# Altium schematic symbol library LibTestSch.SchLib: 27 symbols
Pins are listed as number, name and electrical type; pins without a type are passive.

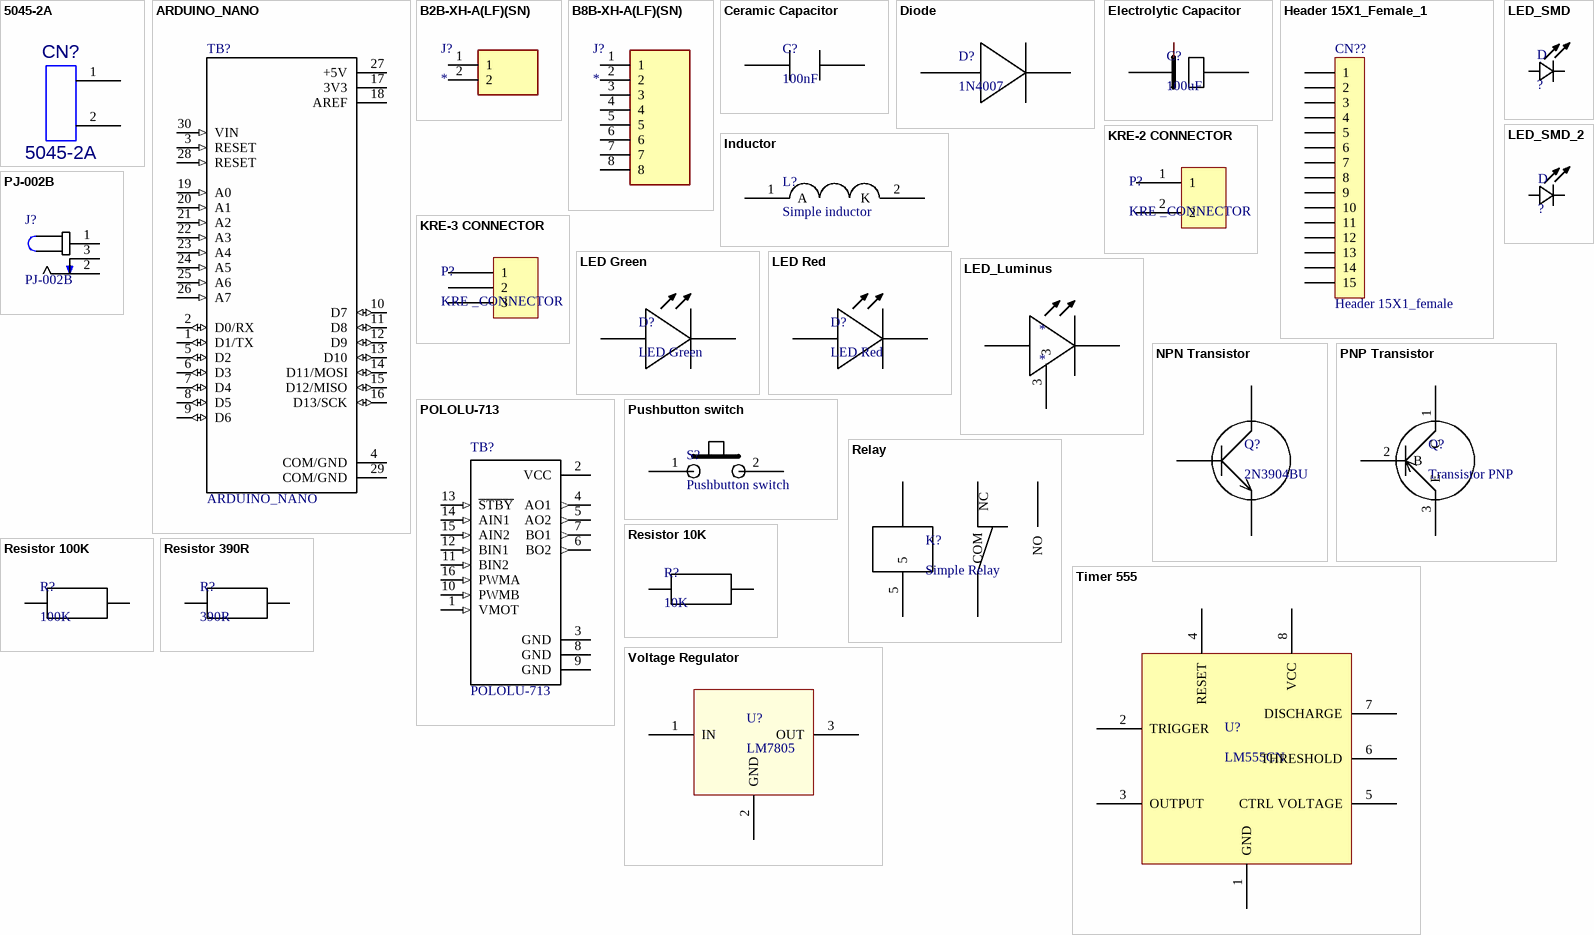
[diagram p0: symbols 5045-2A to Voltage Regulator]

## 5045-2A
designator CN?
Value: *
footprint 5045-2A
footprint 5045-2A
pins: 1, 2

## ARDUINO_NANO
designator TB?
Dev.kit: Arduino; UART; ICSP, USB B mini, pin strips; MP: ARDUINO NANO; SnapEDA_Link: https://www.snapeda.com/parts/ARDUINO%20NANO/Arduino/view-part/?ref=snap; Availability: Unavailable; Package: None; Price: None; MF: Arduino; Value: *
footprint *SHIELD_ARDUINO_NANO
pins: 1 D1/TX (io), 2 D0/RX (io), 3 RESET (in), 4 COM/GND (power), 5 D2 (io), 6 D3 (io), 7 D4 (io), 8 D5 (io), 9 D6 (io), 10 D7 (io), 11 D8 (io), 12 D9 (io), 13 D10 (io), 14 D11/MOSI (io), 15 D12/MISO (io), 16 D13/SCK (io), 17 3V3 (power), 18 AREF (power), 19 A0 (in), 20 A1 (in), 21 A2 (in), 22 A3 (in), 23 A4 (in), 24 A5 (in), 25 A6 (in), 26 A7 (in), 27 +5V (power), 28 RESET (in), 29 COM/GND (power), 30 VIN (in)

## B2B-XH-A(LF)(SN)
designator J?
Connector; Manufacturer_Name: JST Sales America; Manufacturer_Part_Number: B2B-XH-A(LF)(SN); Datasheet Link: http://www.jst-mfg.com/product/pdf/eng/eXH.pdf; Height: 7mm
footprint SHDR2W64P0X250_1X2_740X575X700P
pins: 1, 2

## B8B-XH-A(LF)(SN)
designator J?
Connector; Manufacturer_Name: JST (JAPAN SOLDERLESS TERMINALS); Manufacturer_Part_Number: B8B-XH-A(LF)(SN); Datasheet Link: http://docs-emea.rs-online.com/webdocs/1357/0900766b81357f2f.pdf; Height: 7mm; RS Part Number: 8201576P; RS Price/Stock: http://uk.rs-online.com/web/p/products/8201576P
footprint HDRV8W64P0X250_1X8_2240X575X700P
pins: 1, 2, 3, 4, 5, 6, 7, 8

## Ceramic Capacitor
designator C?, comment 100nF
CAP CER 0.1UF 50V X7R RADIAL; eVendorPart#: BC5111-ND; Manufacturer: Vishay BC Components; Part#: D102K20Y5PH63J5R; eVendor: Digikey; eVendorPrice: 0.18; MOQ: *; MSRP: *
footprint Capacitor(ceramic)
pins: 1, 2

## Diode
designator D?, comment 1N4007
DIODE GEN PURP 1KV 1A DO41; eVendorPart#: 1N4007DITR-ND; Manufacturer: Diodes Incorporated; Part#: 1N4007-T; eVendor: Digikey; eVendorPrice: 0,15; MOQ: *; MSRP: *
footprint DO_41
pins: 1, 2

## Electrolytic Capacitor
designator C?, comment 100uF
CAP ALUM 100UF 20% 50V RADIAL; eVendorPart#: 495-6025-ND; Manufacturer: EPCOS (TDK); Part#: B41851A9107M000; eVendor: Digikey; eVendorPrice: 0.69; MOQ: *; MSRP: *
footprint Capacitor(electrolytic)
pins: 1, 2

## Header 15X1_Female_1
designator CN??, comment Header 15X1_female
Header, 10-Pin, Single row,female; LatestRevisionDate: 17-Jul-2002; LatestRevisionNote: Re-released for DXP Platform.; Publisher: Altium Limited
pins: 1, 2, 3, 4, 5, 6, 7, 8, 9, 10, 11, 12, 13, 14, 15

## Inductor
designator L?, comment Simple inductor
eVendor: *; eVendorPart#: *; eVendorPrice: *; Manufacturer: *; MOQ: *; MSRP: *; Part#: *
footprint indutor
pins: 1 A, 2 K

## KRE-2 CONNECTOR
designator P?, comment KRE _CONNECTOR
eVendor: *; eVendorPart#: *; eVendorPrice: *; Manufacturer: *; MOQ: *; MSRP: *; Part#: *
footprint KRE-2 CONNECTOR
pins: 1, 2

## KRE-3 CONNECTOR
designator P?, comment KRE _CONNECTOR
eVendor: *; eVendorPart#: *; eVendorPrice: *; Manufacturer: *; MOQ: *; MSRP: *; Part#: *
footprint KRE-3 CONNECTOR
pins: 1, 2, 3

## LED Green
designator D?
Green 569nm LED Indication - Discrete 1.9V Radial; eVendorPart#: TLLG5401-ND; Manufacturer: Vishay Semiconductor Opto Division; Part#: TLLG5401; eVendor: Digikey; eVendorPrice: 0.52000; MOQ: *; MSRP: *
footprint LED_GREEN
pins: 1, 2

## LED Red
designator D?
Red 619nm LED Indication - Discrete 1.9V Radial; eVendorPart#: TLLR5401-ND; Manufacturer: Vishay Semiconductor Opto Division; Part#: TLLR5401; eVendor: Digikey; eVendorPrice: 0.50000; MOQ: *; MSRP: *
footprint LED_RED
pins: 1, 2

## LED_Luminus
designator *
footprint CREE
pins: 1, 2, 3

## LED_SMD
designator D, comment ?
LED SMD Luminus
footprint LED_SMD_1
pins: 1, 2

## LED_SMD_2
designator D, comment ?
Cree XLamp XT-E LED; eVendorPart#: 941-XTEARY000000Q01; Manufacturer: CREE, Inc.; Part#: XTEARY-00-0000-000000Q01; eVendor: Mouser; eVendorPrice: US$2.50; MOQ: 1; MSRP: *
footprint CREE
pins: 1, 2

## NPN Transistor
designator Q?, comment 2N3904BU
TRANS NPN 40V 0.2A TO-92; eVendorPart#: 2N3904FS-ND; Manufacturer: ON Semiconductor; eVendor: Digikey; eVendorPrice: 0.21000; MOQ: *; MSRP: *; Part#: 2N3904BU
footprint TO-92
pins: 1 C, 2 B, 3 E

## PJ-002B
designator J?
Value: *
footprint PJ-002B
pins: 1, 2, 3

## PNP Transistor
designator Q?, comment Transistor PNP
eVendor: *; eVendorPart#: *; eVendorPrice: *; Manufacturer: *; MOQ: *; MSRP: *; Part#: *
footprint TO-92
pins: 1 C, 2 B, 3 E

## POLOLU-713
designator TB?
DC-motor driver; IC: TB6612FNG; 100kHz; 1A; Uin mot: 4.5; MF: Pololu; MP: POLOLU-713; SnapEDA_Link: https://www.snapeda.com/parts/POLOLU-713/Pololu/view-part/?ref=snap; Availability: Unavailable; Package: None; Price: None; Value: *
footprint *SHIELD_POLOLU-713
pins: 1 VMOT (in), 2 VCC (power), 3 GND (power), 4 AO1 (out), 5 AO2 (out), 6 BO2 (out), 7 BO1 (out), 8 GND (power), 9 GND (power), 10 PWMB (in), 11 BIN2 (in), 12 BIN1 (in), 13 ~{STBY} (in), 14 AIN1 (in), 15 AIN2 (in), 16 PWMA (in)

## Pushbutton switch
designator S?
eVendorPart#: mota; eVendor: david; eVendorPrice: deti; Manufacturer: *; MOQ: *; MSRP: *; Part#: *
footprint Pushbutton
pins: 1 A, 2 B

## Relay
designator K?, comment Simple Relay
General Purpose Relays Power PCB Relay SPDT 5VDC; eVendorPart#: 653-G5LE-14-DC12; Manufacturer: Omron Electronics; Part#: G5LE-14-DC12; eVendor: Mouser; eVendorPrice: 2.27; MOQ: *; MSRP: *
footprint RELAY
pins: 1 COM, 2 NC, 3 NO, 4, 5

## Resistor 10K
designator R?, comment 10K
RES 10K OHM 1/4W 5% AXIAL; eVendorPart#: 10KQTR-ND; Manufacturer: Yageo; Part#: CFR-25JR-52-10K; eVendor: Digikey; eVendorPrice: 0.10000; MOQ: 1; MSRP: *
footprint Axial 0.4(resistor)
pins: 1, 2

## Resistor 100K
designator R?, comment 100K
RES 100K OHM 1/4W 5% AXIAL; eVendorPart#: 100KQTR-ND; Manufacturer: Yageo; Part#: CFR-25JR-52-100K; eVendor: Digikey; eVendorPrice: 0.10000; MOQ: 1
footprint Axial 0.4(resistor)
pins: 1, 2

## Resistor 390R
designator R?, comment 390R
RES 390 OHM 1/4W 5% AXIAL; eVendorPart#: 390QBK-ND; Manufacturer: Yageo; Part#: CFR-25JB-52-390R; eVendor: Digikey; eVendorPrice: 0.10000; MOQ: 1
footprint Axial 0.4(resistor)
pins: 1, 2

## Timer 555
designator U?, comment LM555CN
Timers & Support Products Single Timer; eVendorPart#: 512-LM555CN; Manufacturer: ON Semiconductor / Fairchild; eVendor: Mouser; eVendorPrice: 0.51; MOQ: *; MSRP: *; Part#: LM555CN
footprint DIP8
pins: 1 GND, 2 TRIGGER, 3 OUTPUT, 4 RESET, 5 CTRL VOLTAGE, 6 THRESHOLD, 7 DISCHARGE, 8 VCC

## Voltage Regulator
designator U?, comment LM7805
IC REG LINEAR 5V 1.5A TO220; eVendorPart#: MC7805CT-BPMS-ND; Manufacturer: Micro Commercial Co; Part#: MC7805CT-BP; eVendor: Digikey; eVendorPrice: 0.48000; MOQ: *; MSRP: *
footprint TO-220
pins: 1 IN, 2 GND, 3 OUT